# EAGLE library part WE-FLEXHV_ER14.5/6 (library WE-FLEX HV)
WE-FLEX HV Flexible Transformer for DC/DC Converter Characteristics Transformer with 6 identical windings 4 sizes with 5 different lengths of air gap each Isolation voltage up to 1.5 kVAC Low leakage inductance Operating temperature: –40 ºC to +125 ºC By using different circuits more than 375 transformer solutions and about 125 choke solutions possible. Consequently, quick prototyping possibilities EFD size parts provide Basic insulation for a working voltage of 250VRMS when they are connteced approbiate Applications Flyback converters Forward converters Push-pull converters Step-up/step-down converters SEPIC <https://katalog.we-online.com/media/images/v2/o97648v209%20Family_WE-FLEX_HV_749196xxx_4C_NEU.jpg> Details see: https://katalog.we-online.com/en/pbs/WE-FLEXHV#vs_ct:3 Updated by Yingchun Shan 2019-08-19 20179(C) Wurth Elektronik
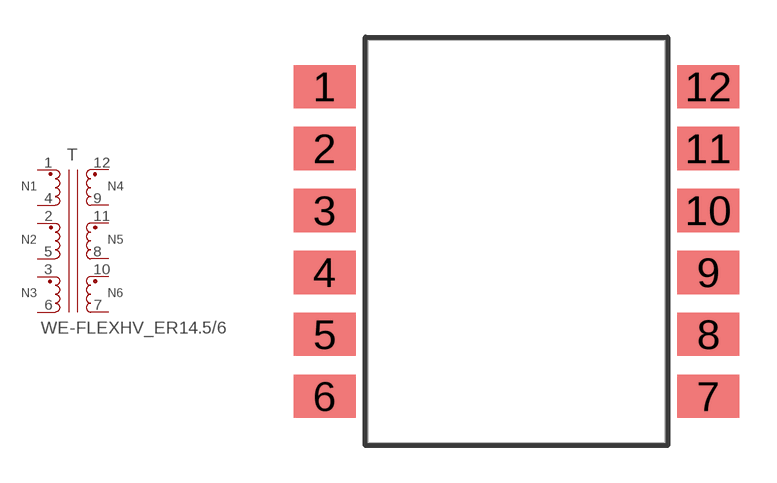
[diagram p3: symbol with the pads of WE-FLEXHV_ER14.5/6; footprint WE-FLEXHV_ER14.5/6]

Designator prefix T

## WE-FLEXHV_ER14.5/6_749196208 (DATASHEET-URL: https://katalog.we-online.com/pbs/datasheet/749196208.pdf; IRBASE: 0.8A; ISATBASE: 0.07A; LSBASE: 0.17uH; N: 1:1:1:1:1:1; PART-NUMBER: 749196208; RDCBASE: 200mOhm; VALUE: 140uH; VOLTAGE-USECONDBASE: 63.4uVs; VT: 1500V(AC)), WE-FLEXHV_ER14.5/6_749196218 (DATASHEET-URL: https://katalog.we-online.com/pbs/datasheet/749196218.pdf; IRBASE: 0.8A; ISATBASE: 0.48A; LSBASE: 0.17uH; N: 1:1:1:1:1:1; PART-NUMBER: 749196218; RDCBASE: 200mOhm; VALUE: 21.6uH; VOLTAGE-USECONDBASE: 63.4uVs; VT: 1500V(AC)), WE-FLEXHV_ER14.5/6_749196228 (DATASHEET-URL: https://katalog.we-online.com/pbs/datasheet/749196228.pdf; IRBASE: 0.8A; ISATBASE: 0.94A; LSBASE: 0.17uH; N: 1:1:1:1:1:1; PART-NUMBER: 749196228; RDCBASE: 200mOhm; VALUE: 11.6uH; VOLTAGE-USECONDBASE: 63.4uVs; VT: 1500V(AC)), WE-FLEXHV_ER14.5/6_749196238 (DATASHEET-URL: https://katalog.we-online.com/pbs/datasheet/749196238.pdf; IRBASE: 0.8A; ISATBASE: 1.3A; LSBASE: 0.17uH; N: 1:1:1:1:1:1; PART-NUMBER: 749196238; RDCBASE: 200mOhm; VALUE: 8.3uH; VOLTAGE-USECONDBASE: 63.4uVs; VT: 1500V(AC)), WE-FLEXHV_ER14.5/6_749196248 (DATASHEET-URL: https://katalog.we-online.com/pbs/datasheet/749196248.pdf; IRBASE: 0.8A; ISATBASE: 1.6A; LSBASE: 0.17uH; N: 1:1:1:1:1:1; PART-NUMBER: 749196248; RDCBASE: 200mOhm; VALUE: 6.6uH; VOLTAGE-USECONDBASE: 63.4uVs; VT: 1500V(AC))  [WE-FLEXHV_ER14.5/6]
1  1  pas
2  3  pas
3  5  pas
4  2  pas
5  4  pas
6  6  pas
7  7  pas
8  9  pas
9  11  pas
10  8  pas
11  10  pas
12  12  pas

## Footprint WE-FLEXHV_ER14.5/6 (pad centres in mm)
WE-FLEX HV Flexible Transformer for DC/DC Converter Size: ER14.5/6 SMD 12Pin
smd 2.5 x 1.75: 1 -7.75,6.25; 2 -7.75,3.75; 3 -7.75,1.25; 4 -7.75,-1.25; 5 -7.75,-3.75; 6 -7.75,-6.25; 7 7.75,-6.25; 8 7.75,-3.75; 9 7.75,-1.25; 10 7.75,1.25; 11 7.75,3.75; 12 7.75,6.25